# EAGLE library part 3X10 (library Drone_Connectors)
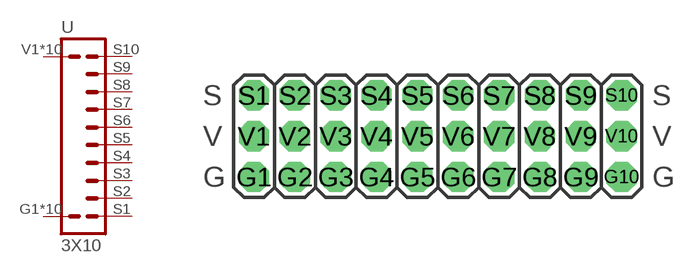
[diagram p3: symbol with the pads of 3X10; footprint 3X10]

Designator prefix -

## 3X10  [3X10]
G1  G  pwr
G2  G  pwr
G3  G  pwr
G4  G  pwr
G5  G  pwr
G6  G  pwr
G7  G  pwr
G8  G  pwr
G9  G  pwr
G10  G  pwr
S1  1
S2  2
S3  3
S4  4
S5  5
S6  6
S7  7
S8  8
S9  9
S10  10
V1  V  pwr
V2  V  pwr
V3  V  pwr
V4  V  pwr
V5  V  pwr
V6  V  pwr
V7  V  pwr
V8  V  pwr
V9  V  pwr
V10  V  pwr

## Footprint 3X10 (pad centres in mm)
drill 1.016 pad 1.88 octagon: G1 -11.43,-2.54; G2 -8.89,-2.54; G3 -6.35,-2.54; G4 -3.81,-2.54; G5 -1.27,-2.54; G6 1.27,-2.54; G7 3.81,-2.54; G8 6.35,-2.54; G9 8.89,-2.54; G10 11.43,-2.54; S1 -11.43,2.54; S2 -8.89,2.54; S3 -6.35,2.54; S4 -3.81,2.54; S5 -1.27,2.54; S6 1.27,2.54; S7 3.81,2.54; S8 6.35,2.54; S9 8.89,2.54; S10 11.43,2.54; V1 -11.43,0; V2 -8.89,0; V3 -6.35,0; V4 -3.81,0; V5 -1.27,0; V6 1.27,0; V7 3.81,0; V8 6.35,0; V9 8.89,0; V10 11.43,0